# EAGLE library part NANO (library DASHBOARD)
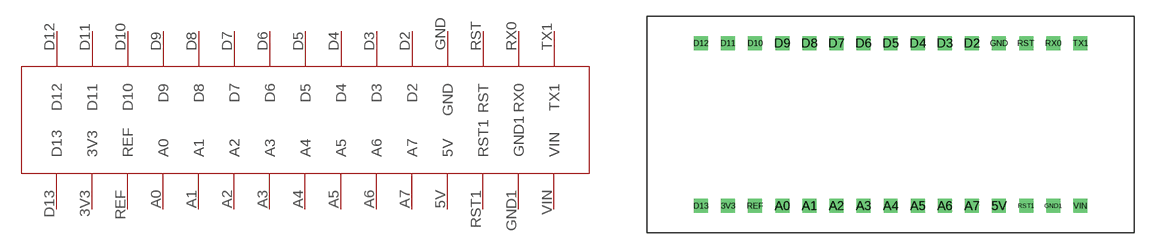
[diagram p1: symbol with the pads of NANO; footprint NANO]

Designator prefix -

## NANO  [NANO]
3V3  3V3
5V  5V
A0  A0
A1  A1
A2  A2
A3  A3
A4  A4
A5  A5
A6  A6
A7  A7
D2  D2
D3  D3
D4  D4
D5  D5
D6  D6
D7  D7
D8  D8
D9  D9
D10  D10
D11  D11
D12  D12
D13  D13
GND  GND
GND1  GND1
REF  REF
RST  RST
RST1  RST1
RX0  RX0
TX1  TX1
VIN  VIN

## Footprint NANO (pad centres in mm)
drill 0.8 square: 3V3 2.54,0; 5V 27.94,0; A0 7.62,0; A1 10.16,0; A2 12.7,0; A3 15.24,0; A4 17.78,0; A5 20.32,0; A6 22.86,0; A7 25.4,0; D2 25.4,15.24; D3 22.86,15.24; D4 20.32,15.24; D5 17.78,15.24; D6 15.24,15.24; D7 12.7,15.24; D8 10.16,15.24; D9 7.62,15.24; D10 5.08,15.24; D11 2.54,15.24; D12 0,15.24; D13 0,0; GND 27.94,15.24; GND1 33.02,0; REF 5.08,0; RST 30.48,15.24; RST1 30.48,0; RX0 33.02,15.24; TX1 35.56,15.24; VIN 35.56,0